# EAGLE library part APP_CORE (library LearningByMaking)
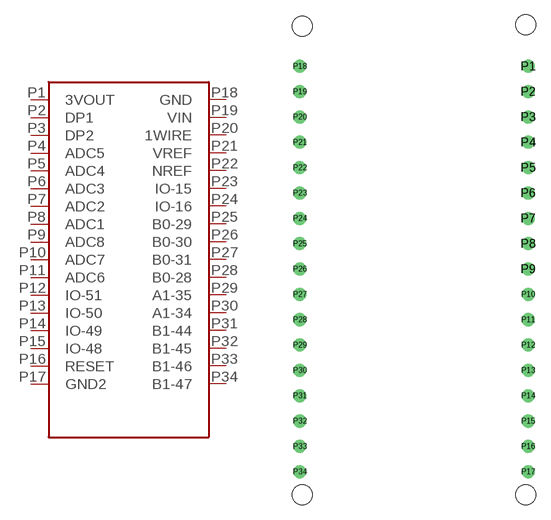
[diagram p4: symbol with the pads of APPCORE_RECEIVER; footprint APPCORE_RECEIVER]

Designator prefix -

## APP_CORE  [APPCORE_RECEIVER]
P1  3VOUT
P2  DP1
P3  DP2
P4  ADC5
P5  ADC4
P6  ADC3
P7  ADC2
P8  ADC1
P9  ADC8
P10  ADC7
P11  ADC6
P12  IO-51
P13  IO-50
P14  IO-49
P15  IO-48
P16  RESET
P17  GND2
P18  GND
P19  VIN
P20  1WIRE
P21  VREF
P22  NREF
P23  IO-15
P24  IO-16
P25  B0-29
P26  B0-30
P27  B0-31
P28  B0-28
P29  A1-35
P30  A1-34
P31  B1-44
P32  B1-45
P33  B1-46
P34  B1-47

## Footprint APPCORE_RECEIVER (pad centres in mm)
drill 0.8: P1 11.43,19.45; P2 11.43,16.91; P3 11.43,14.37; P4 11.43,11.83; P5 11.43,9.29; P6 11.43,6.75; P7 11.43,4.21; P8 11.43,1.67; P9 11.43,-0.87; P10 11.43,-3.41; P11 11.43,-5.95; P12 11.43,-8.49; P13 11.43,-11.03; P14 11.43,-13.57; P15 11.43,-16.11; P16 11.43,-18.65; P17 11.43,-21.19; P18 -11.43,19.45; P19 -11.43,16.91; P20 -11.43,14.37; P21 -11.43,11.83; P22 -11.43,9.29; P23 -11.43,6.75; P24 -11.43,4.21; P25 -11.43,1.67; P26 -11.43,-0.87; P27 -11.43,-3.41; P28 -11.43,-5.95; P29 -11.43,-8.49; P30 -11.43,-11.03; P31 -11.43,-13.57; P32 -11.43,-16.11; P33 -11.43,-18.65; P34 -11.43,-21.19
hole 2 at 11.176,23.595
hole 2 at -11.176,23.476
hole 2 at -11.176,-23.476
hole 2 at 11.176,-23.476